# Altium schematic symbol library SCH - OPAMP - TLV9004QPWRQ1.SchLib: 1 symbol
Pins are listed as number, name and electrical type; pins without a type are passive.

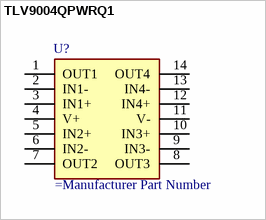
[diagram p0: symbol TLV9004QPWRQ1]

## TLV9004QPWRQ1
designator U?
TLV9004QPWRQ1; Manufacturer_Name: Texas Instruments; Geometry.Height: 1.2mm; Mouser Part Number: 595-TLV9004QPWRQ1; Mouser Price/Stock: https://www.mouser.co.uk/ProductDetail/Texas-Instruments/TLV9004QPWRQ1?qs=A6eO%252BMLsxmSwcgF9juBFfg%3D%3D; Manufacturer_Part_Number: TLV9004QPWRQ1; Datasheet Link: https://www.ti.com/lit/ds/symlink/tlv9004-q1.pdf?ts=1637475197979&ref_url=https%253A%252F%252Fwww.ti.com%252Fstore%252Fti%252Fen%252Fp%252Fproduct%252F%253Fp%253DTLV9004QPWRQ1
footprint SOP65P640X120-14N
pins: 1 OUT1, 2 IN1-, 3 IN1+, 4 V+, 5 IN2+, 6 IN2-, 7 OUT2, 8 OUT3, 9 IN3-, 10 IN3+, 11 V-, 12 IN4+, 13 IN4-, 14 OUT4